# EAGLE library part DM3CS-SF (library QUAD_ICs)
Micro SD card reader
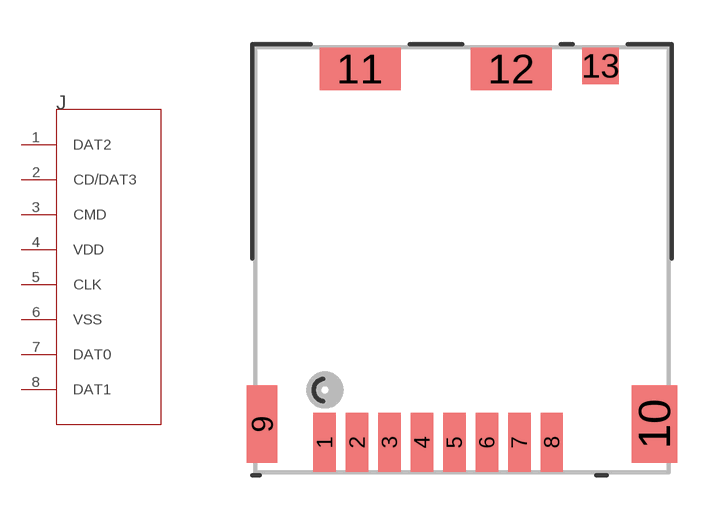
[diagram p1: symbol with the pads of CONN_3CS-SF; footprint CONN_3CS-SF]

Designator prefix J

## DM3CS-SF (BUILT_BY: EMA_Matt; COPYRIGHT: Copyright (C) 2018 Accelerated Designs. All rights reserved; MANUFACTURER_PART_NUMBER: DM3CS-SF; VENDOR: Hirose)  [CONN_3CS-SF]
1  DAT2  pas
2  CD/DAT3  pas
3  CMD  pas
4  VDD  pas
5  CLK  pas
6  VSS  pas
7  DAT0  pas
8  DAT1  pas

## Footprint CONN_3CS-SF (pad centres in mm)
smd 0.762 x 2.007: 1 -4.659,-6.198; 2 -3.559,-6.198; 3 -2.459,-6.198; 4 -1.359,-6.198; 5 -0.259,-6.198; 6 0.841,-6.198; 7 1.941,-6.198; 8 3.041,-6.198
smd 1.041 x 2.642: 9 -6.779,-5.578
smd 1.549 x 2.642: 10 6.526,-5.578
smd 2.743 x 1.448: 11 -3.459,6.477; 12 1.669,6.477
smd 1.245 x 1.245: 13 4.691,6.579